# EAGLE library part TPS25814RSMR (library TPS25814RSMR)
USB Interface IC USB Type-C controller with integrated source power switch 32-VQFN -40 to 105 Source: Datasheet <https://www.ti.com/lit/ds/symlink/tps25814.pdf?ts=1614246005864&ref_url=https%3A%2F%2Fwww.mouser.it%2F>
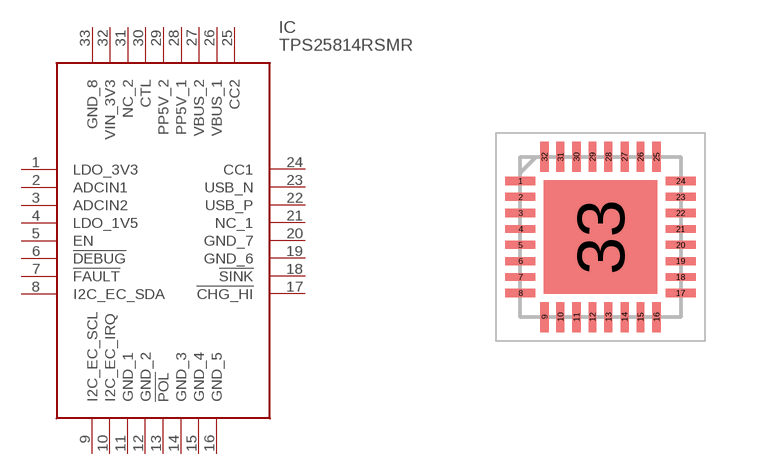
[diagram p0: symbol with the pads of QFN40P400X400X100-33N; footprint QFN40P400X400X100-33N]

Designator prefix IC

## TPS25814RSMR (Description: USB Interface IC USB Type-C controller with integrated source power switch 32-VQFN -40 to 105; Height: 1mm; Manufacturer_Name: Texas Instruments; Manufacturer_Part_Number: TPS25814RSMR; Mouser_Part_Number: 595-TPS25814RSMR; Mouser_Price-Stock: https://www.mouser.co.uk/ProductDetail/Texas-Instruments/TPS25814RSMR?qs=eP2BKZSCXI7b%2F2SE6IEFzg%3D%3D)  [QFN40P400X400X100-33N]
1  LDO_3V3
2  ADCIN1
3  ADCIN2
4  LDO_1V5
5  EN
6  !DEBUG
7  !FAULT
8  I2C_EC_SDA
9  I2C_EC_SCL
10  I2C_EC_IRQ
11  GND_1
12  GND_2
13  !POL
14  GND_3
15  GND_4
16  GND_5
17  !CHG_HI
18  !SINK
19  GND_6
20  GND_7
21  NC_1
22  USB_P
23  USB_N
24  CC1
25  CC2
26  VBUS_1
27  VBUS_2
28  PP5V_1
29  PP5V_2
30  CTL
31  NC_2
32  VIN_3V3
33  GND_8

## Footprint QFN40P400X400X100-33N (pad centres in mm)
RSM0032B
smd 0.75 x 0.2: 1 -2,1.4; 2 -2,1; 3 -2,0.6; 4 -2,0.2; 5 -2,-0.2; 6 -2,-0.6; 7 -2,-1; 8 -2,-1.4; 17 2,-1.4; 18 2,-1; 19 2,-0.6; 20 2,-0.2; 21 2,0.2; 22 2,0.6; 23 2,1; 24 2,1.4
smd 0.2 x 0.75: 9 -1.4,-2; 10 -1,-2; 11 -0.6,-2; 12 -0.2,-2; 13 0.2,-2; 14 0.6,-2; 15 1,-2; 16 1.4,-2; 25 1.4,2; 26 1,2; 27 0.6,2; 28 0.2,2; 29 -0.2,2; 30 -0.6,2; 31 -1,2; 32 -1.4,2
smd 2.85 x 2.85: 33 0,0